# EAGLE library part PIN_1X8 (library FaBo-PIN)
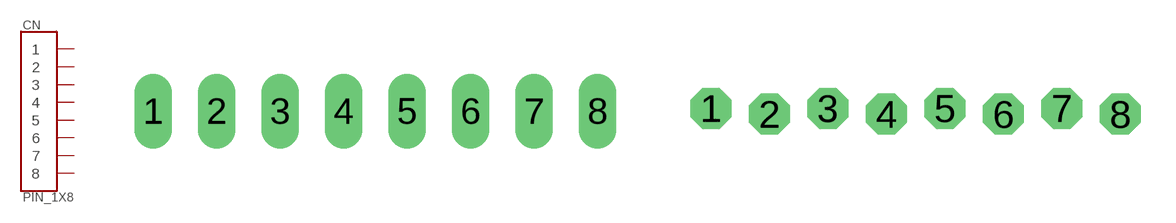
[diagram p2: symbol with the pads of PIN_1X8_LONG; footprints PIN_1X8_LONG, PIN_1X8_SNEAKY]

Designator prefix CN

## PIN_1X8-LONG  [PIN_1X8_LONG]
1  1
2  2
3  3
4  4
5  5
6  6
7  7
8  8

## PIN_1X8-SNEAKY  [PIN_1X8_SNEAKY]
Pads as for PIN_1X8_LONG

## PIN_1X8  [PIN_1X8]
Pads as for PIN_1X8_LONG

## Footprint PIN_1X8_LONG (pad centres in mm)
drill 1 long: 1 -8.89,0; 2 -6.35,0; 3 -3.81,0; 4 -1.27,0; 5 1.27,0; 6 3.81,0; 7 6.35,0; 8 8.89,0

## Footprint PIN_1X8_SNEAKY (pad centres in mm)
drill 1 pad 1.778 octagon: 1 -8.89,0.127; 2 -6.35,-0.127; 3 -3.81,0.127; 4 -1.27,-0.127; 5 1.27,0.127; 6 3.81,-0.127; 7 6.35,0.127; 8 8.89,-0.127

## Footprint PIN_1X8 (pad centres in mm)
drill 1.1 pad 1.93 square: 1 -8.89,0
drill 1.1 pad 1.93 octagon: 2 -6.35,0; 3 -3.81,0; 4 -1.27,0; 5 1.27,0; 6 3.81,0; 7 6.35,0; 8 8.89,0